# Altium footprint library lianchen_lib.PcbLib: 233 footprints (part 12 of 15)
Each footprint in its own frame and in the unit in brackets; x right, y up, seen from the top. Pads: shape width x height; smd on the part's side, far side on the other; paste and mask are expansions set on the pad; w line width, h text height; cw(c..) or ccw(c..) is an arc to the next point about the centre after c.
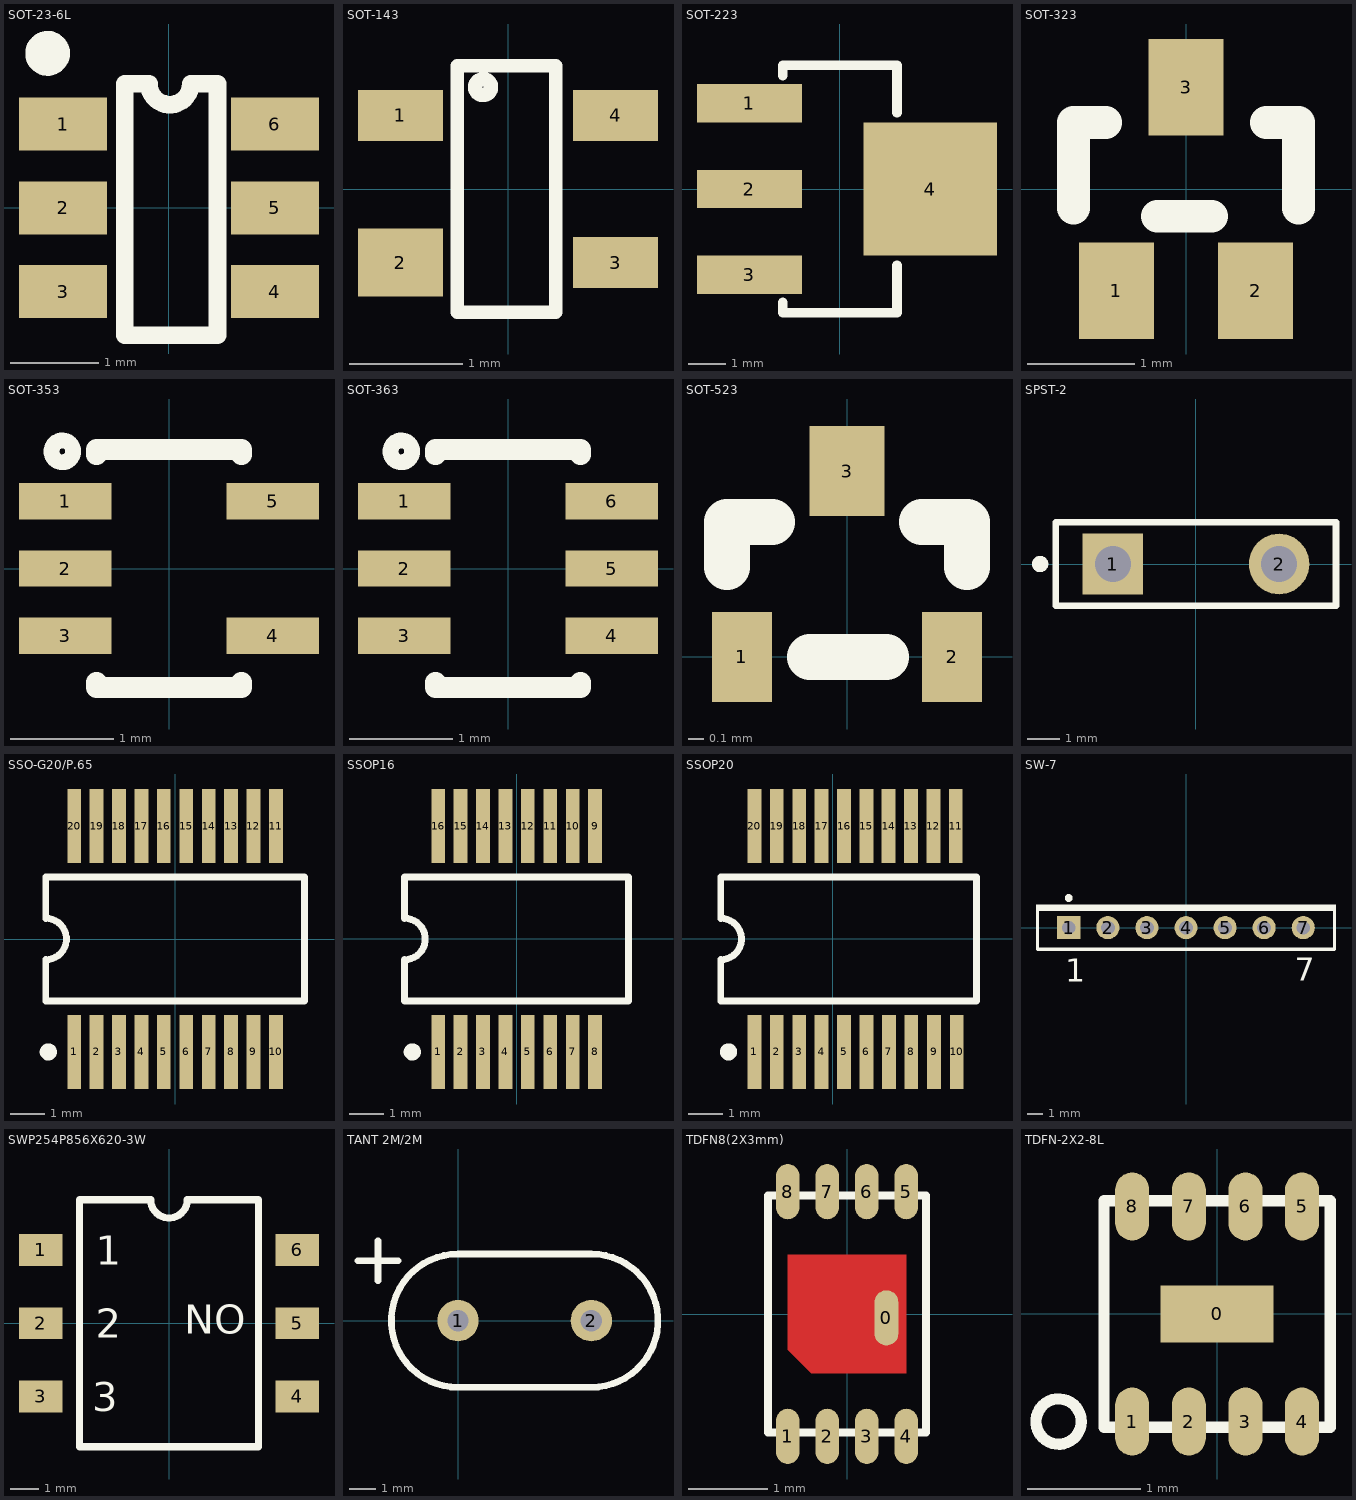
[diagram p11: the footprints below, top view; thin cyan lines are the x and y axes]

## SOT-23-6L [mm]
height 1.25
pads (6):
  rect 1x0.6 smd: 1(-1.2,0.95) 2(-1.2,0) 3(-1.2,-0.95) 4(1.2,-0.95) 5(1.2,0) 6(1.2,0.95)
Top Overlay:
  circle w0.254: c-1.375,1.751 r0.127
  lines w0.2: -0.5,1.407 -0.5,-1.443 0.55,-1.443 0.55,1.407 ; -0.229,1.407 ccw(c0.009,1.407) 0.246,1.407
  lines w0.203: -0.5,1.407 -0.229,1.407 ; 0.246,1.407 0.55,1.407

## SOT-143 [mm] "Reset Circuit with Capacitor-Adjustable Reset Timeout Delay"
height 1.1
pads (4):
  rect 0.75x0.45 smd: 1(-0.95,0.65) 3(0.95,-0.65) 4(0.95,0.65)
  rect 0.75x0.6 smd: 2(-0.95,-0.65)
Top Overlay:
  circle w0.127: c-0.22,0.9 r0.07
  lines w0.12: -0.45,-1.09 -0.45,1.09 0.42,1.09 0.42,-1.09 -0.45,-1.09

## SOT-223 [mil]
height 2
pads (4):
  rect 110x40 smd: 1(-95,90) 2(-95,0) 3(-95,-90)
  rect 140x140 smd: 4(95,0)
Top Overlay:
  lines w10: -60,-119 -60,-130 60,-130 60,-80 ; -60,119 -60,130 60,130 60,80
3D body "SW3DPS-SOT-223-DEFAULT.STEP": height 64.96, standoff -1.18, extent -135.94,-127.92 138.07,127.98

## SOT-323 [mm]
height 1
pads (3):
  rect 0.7x0.9 smd: 1(-0.65,-0.95) 2(0.65,-0.95) 3(0,0.95)
Top Overlay:
  lines w0.305: -1.05,-0.178 -1.05,0.62 -0.749,0.62 ; -0.267,-0.254 0.241,-0.254 ; 0.749,0.62 1.05,0.62 1.05,-0.178

## SOT-353 [mm]
height 7.112
pads (5):
  rect 0.896x0.35 smd: 1(-1.002,0.65) 2(-1.002,0) 3(-1.002,-0.65) 4(1.002,-0.65) 5(1.002,0.65)
Top Overlay:
  circle w0.152: c-1.031,1.133 r0.105
  lines w0.2: -0.7,-1.1 -0.7,-1.15 0.7,-1.15 0.7,-1.1 ; -0.7,1.1 -0.7,1.15 0.7,1.15 0.7,1.1

## SOT-363 [mm]
height 1.016
pads (6):
  rect 0.896x0.35 smd: 1(-1.002,0.65) 2(-1.002,0) 3(-1.002,-0.65) 4(1.002,-0.65) 5(1.002,0) 6(1.002,0.65)
Top Overlay:
  circle w0.152: c-1.031,1.133 r0.105
  lines w0.2: -0.7,-1.1 -0.7,-1.15 0.7,-1.15 0.7,-1.1 ; -0.7,1.1 -0.7,1.15 0.7,1.15 0.7,1.1
3D body "SOT-363.STEP": height 1, standoff 0, extent -1.15,-1.041 1.15,1.059

## SOT-523 [mm]
pads (3):
  rect 0.4x0.6 smd: 1(-0.7,0) 2(0.7,0)
  rect 0.5x0.6 smd: 3(0,1.24)
Top Overlay:
  lines w0.305: -0.8,0.6 -0.8,0.9 -0.5,0.9 ; -0.247,0 0.261,0 ; 0.5,0.9 0.8,0.9 0.8,0.6

## SPST-2 [mm] "Circuit Breaker; 2 Leads"
pads (2):
  rect 1.85x1.85 hole 1.1: 1(-2.54,0)
  round 1.85 hole 1.1: 2(2.54,0)
Top Overlay:
  circle w0.25: c-4.761,-0.001 r0.125
  lines w0.2: -4.28,-1.27 -4.28,1.27 4.28,1.27 4.28,-1.27 -4.28,-1.27

## SSO-G20/P.65 [mm]
pads (20):
  rect 0.4x2.15 smd: 1(-2.925,-3.275) 2(-2.275,-3.275) 3(-1.625,-3.275) 4(-0.975,-3.275) 5(-0.325,-3.275) 6(0.325,-3.275) 7(0.975,-3.275) 8(1.625,-3.275) 9(2.275,-3.275) 10(2.925,-3.275) 11(2.925,3.275) 12(2.275,3.275) 13(1.625,3.275) 14(0.975,3.275) 15(0.325,3.275) 16(-0.325,3.275) 17(-0.975,3.275) 18(-1.625,3.275) 19(-2.275,3.275) 20(-2.925,3.275)
Top Overlay:
  circle w0.25: c-3.675,-3.275 r0.125
  lines w0.2: -3.75,-1.8 -3.75,-0.6 ccw(c-3.75,0) -3.75,0.6 -3.75,1.8 3.75,1.8 3.75,-1.8 -3.75,-1.8

## SSOP16 [mm] "SSOP; 16 Leads; Body Width 5.3 mm; Pitch 0.65 mm"
height 2
pads (16):
  rect 0.4x2.15 smd: 1(-2.275,-3.275) 2(-1.625,-3.275) 3(-0.975,-3.275) 4(-0.325,-3.275) 5(0.325,-3.275) 6(0.975,-3.275) 7(1.625,-3.275) 8(2.275,-3.275) 9(2.275,3.275) 10(1.625,3.275) 11(0.975,3.275) 12(0.325,3.275) 13(-0.325,3.275) 14(-0.975,3.275) 15(-1.625,3.275) 16(-2.275,3.275)
Top Overlay:
  circle w0.25: c-3.025,-3.275 r0.125
  lines w0.2: -3.25,-1.8 -3.25,-0.6 ccw(c-3.25,0) -3.25,0.6 -3.25,1.8 3.25,1.8 3.25,-1.8 -3.25,-1.8

## SSOP20 [mm] "SSOP; 20 Leads; Body Width 5.3 mm; Pitch 0.65 mm"
height 2
pads (20):
  rect 0.4x2.15 smd: 1(-2.275,-3.275) 2(-1.625,-3.275) 3(-0.975,-3.275) 4(-0.325,-3.275) 5(0.325,-3.275) 6(0.975,-3.275) 7(1.625,-3.275) 8(2.275,-3.275) 9(2.935,-3.275) 10(3.596,-3.275) 11(3.566,3.275) 12(2.916,3.275) 13(2.266,3.275) 14(1.616,3.275) 15(0.975,3.275) 16(0.325,3.275) 17(-0.325,3.275) 18(-0.975,3.275) 19(-1.625,3.275) 20(-2.275,3.275)
Top Overlay:
  circle w0.25: c-3.025,-3.275 r0.125
  lines w0.2: -3.25,-1.8 -3.25,-0.6 ccw(c-3.25,0) -3.25,0.6 -3.25,1.8 4.166,1.8 4.166,-1.8 -3.25,-1.8

## SW-7 [mm] "6 Way Switch; 7 Leads"
pads (7):
  rect 1.5x1.5 hole 0.9: 1(-7.62,0)
  round 1.5 hole 0.9: 2(-5.08,0) 3(-2.54,0) 4(0,0) 5(2.54,0) 6(5.08,0) 7(7.62,0)
Top Overlay:
  circle w0.25: c-7.625,1.929 r0.125
  rectangle: -9.75,1.1 9.75,1.5
  lines w0.2: -9.65,1.4 -9.65,-1.4 9.65,-1.4 9.65,1.4
  text "1" at -7.851,-3.526 h1.5
  text "7" at 7.084,-3.445 h1.5

## SWP254P856X620-3W [mm]
height 2.794
pads (6):
  rect 1.5x1.1 smd: 1(-4.45,2.54) 2(-4.45,0) 3(-4.45,-2.54) 4(4.45,-2.54) 5(4.45,0) 6(4.45,2.54)
Top Overlay:
  lines w0.254: -1.651,4.28 -0.635,4.28 ; -0.635,4.28 ccw(c0,4.28) 0.635,4.28 3.1,4.28 3.1,-4.28 -3.1,-4.28 -3.1,4.28 -0.635,4.28
  text "ON" at 2.667,0.635 h1.02
  text "3" at -2.667,-3.048 h1.02
  text "2" at -2.54,-0.508 h1.02
  text "1" at -2.54,2.032 h1.02

## TANT 2M/2M [mil]
pads (2):
  round 62 hole 32: 1(0,0) 2(200,0)
Top Overlay:
  lines w10: -150,90 -90,90 ; -120,60 -120,120 ; 0,-100 cw(c0,0) 0,100 200,100 cw(c200,0) 200,-100 0,-100

## TDFN8(2X3mm) [mm]
height 1
pads (9):
  oval 0.3x0.7 smd: 0(0.5,-0.05) 1(-0.75,-1.55) 2(-0.25,-1.55) 3(0.25,-1.55) 4(0.75,-1.55) 5(0.75,1.55) 6(0.25,1.55) 7(-0.25,1.55) 8(-0.75,1.55)
Top Layer:
  region: -0.75,-0.45 -0.45,-0.75 0.75,-0.75 0.75,0.75 -0.75,0.75
Top Overlay:
  lines w0.1: -1,-1.5 -1,1.5 1,1.5 1,-1.5 -1,-1.5
Top Paste:
  region: -0.75,-0.45 -0.45,-0.75 0.75,-0.75 0.75,0.75 -0.75,0.75
Top Solder:
  region: -0.75,-0.45 -0.45,-0.75 0.75,-0.75 0.75,0.75 -0.75,0.75

## TDFN-2X2-8L [mm]
height 1
pads (9):
  rect 1x0.5 smd: 0(0,0)
  oval 0.3x0.6 smd: 1(-0.75,-0.95) 2(-0.25,-0.95) 3(0.25,-0.95) 4(0.75,-0.95) 5(0.75,0.95) 6(0.25,0.95) 7(-0.25,0.95) 8(-0.75,0.95)
Top Overlay:
  circle w0.1: c-1.4,-0.95 r0.2
  lines w0.1: -1,-1 -1,1 1,1 1,-1 -1,-1